# Altium footprint library 691364300004.PcbLib: 1 footprints
Each footprint in its own frame and in the unit in brackets; x right, y up, seen from the top. Pads: shape width x height; smd on the part's side, far side on the other; paste and mask are expansions set on the pad; w line width, h text height; cw(c..) or ccw(c..) is an arc to the next point about the centre after c.
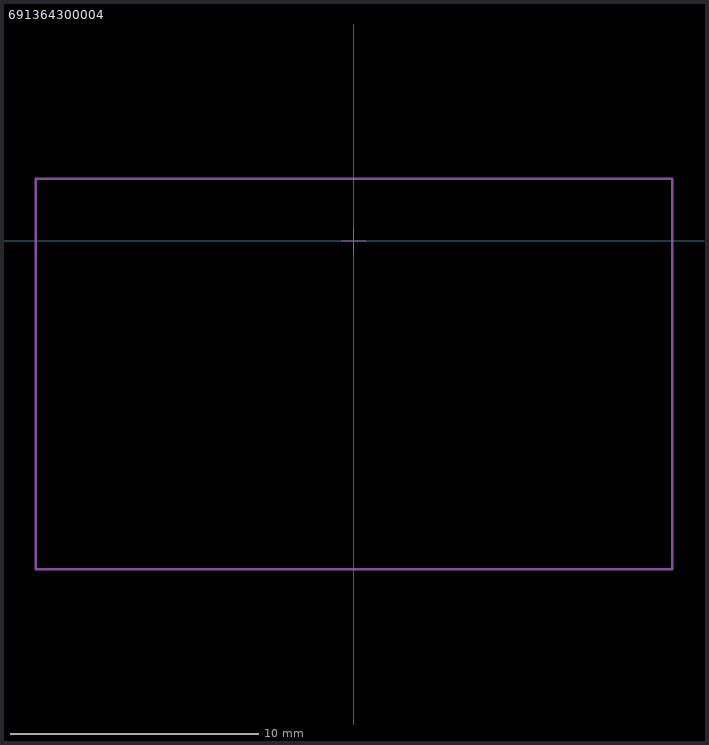
[diagram p0: the footprint, top view; thin cyan lines are the x and y axes]

## 691364300004 [mm]
Top Assembly:
  lines w0.05: -0.5,0 0.5,0 ; 0,-0.5 0,0.5
  lines w0.1: -12.815,-13.25 12.827,-13.25 12.827,2.5 -12.815,2.5 -12.815,-13.25
3D body "691364300004 (rev1).stp": height 7.85, standoff -3.25, extent -12.82,-13.3 12.82,2.5